# Altium integrated library Relay.IntLib: 11 symbols
Pins are listed as number, name and electrical type; pins without a type are passive.

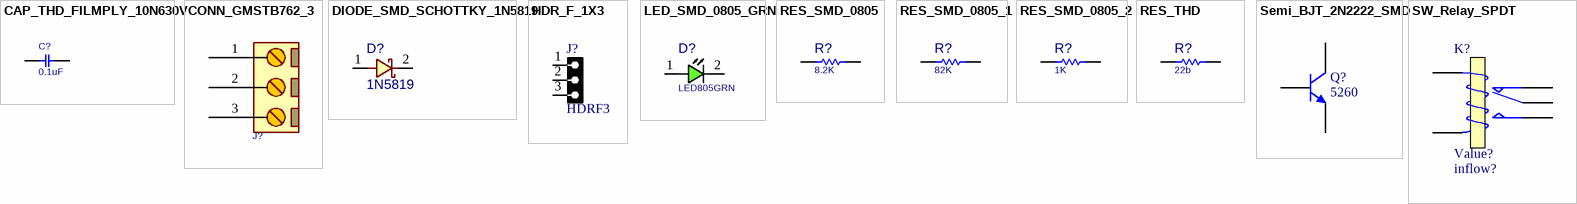
[diagram p0: symbols CAP_THD_FILMPLY_10N630V to SW_Relay_SPDT]

## CAP_THD_FILMPLY_10N630V
designator C?, comment 0.1uF
CAP, FILM, 10nF, 630V; MANF_P#: MANF_PART#; PARAM: 630V; PRICE: 100= 1$; DESC: CAP, FILM,; MANF: MANF; PARAM2: PARAM2; ASSEMBLY: ASSEMBLY; VALUE: 0.1uF
footprint C_PLY_13X5 (Footprint not found)
pins: 1, 2

## CONN_GMSTB762_3
designator J?, comment CONN_GMSTB3  (value not drawn)
CONN, PHOENIX MSTB, 5-G, 5.08mm pitch; MANF_P#: GMSTB 2,5/3-G-7,62; VALUE: CONN_GMSTB3
footprint GMSTB762_3 (PHOENIX, GMSTB 2,5/3-G-7,62, 7.62mm pitch, 3pin)
pins: 1, 2, 3

## DIODE_SMD_SCHOTTKY_1N5819
designator D?, comment 1N5819
DIODE, SCHOTTKY, 40V, 1A; MANF: DIODES; MANF_P#: 1N5819HW-7-F; DESC: DESCRIPTION; ASSEMBLY: ASSEMBLY; PRICE: PRICE; PARAM2: 1A; PARAM: 40V; VALUE: 1N5819
footprint D_SOD123W (1206D, SOD123, miniMELF, DO-213AA, MLL34, 320X160D)
pins: 1, 2

## HDR_F_1X3
designator J?, comment HDRF3
CONN, HEADER, Female, pitch: 2.54mm, 3POS; VALUE: HDRF3
footprint HDR_F_1X3 (HEADER FEMALE pitch: 2.54mm)
pins: 1, 2, 3

## LED_SMD_0805_GRN
designator D?, comment LED805GRN
LED, SMD, 0805, GREEN; PARAM: 20mA; DESC: DESCRIPTION; PARAM2: 2.2V; MANF: -; ASSEMBLY: ASSEMBLY; PRICE: 36t@Javan; MANF_P#: -; VALUE: LED805GRN
footprint LED0805GRN (LED SMD 0805, GREEN)
pins: 1 ANODE, 2 CATHODE

## RES_SMD_0805
designator R?, comment 8.2K
RESISTOR, SMD; PARAM: -W; DESC: DESCRIPTION; DIST#: MOUSER; PARAM2: 1%; MANF_P#: -; MANF: -; ASSEMBLY: ASSEMBLY; PRICE: 100= 0.5$; VALUE: 8.2K
footprint R0805 (CHIP RESISTOR 1/8 WATT ,2.0X1.3mm, 0805, 2012)
pins: 1, 2

## RES_SMD_0805_1
designator R?, comment 82K
RESISTOR, SMD; PARAM: -W; DESC: DESCRIPTION; DIST#: MOUSER; PARAM2: 1%; MANF_P#: -; MANF: -; ASSEMBLY: ASSEMBLY; PRICE: 100= 0.5$; VALUE: 82K
footprint R0805 (CHIP RESISTOR 1/8 WATT ,2.0X1.3mm, 0805, 2012)
pins: 1, 2

## RES_SMD_0805_2
designator R?, comment 1K
RESISTOR, SMD; PARAM: -W; DESC: DESCRIPTION; DIST#: MOUSER; PARAM2: 1%; MANF_P#: -; MANF: -; ASSEMBLY: ASSEMBLY; PRICE: 100= 0.5$; VALUE: 1K
footprint R0805 (CHIP RESISTOR 1/8 WATT ,2.0X1.3mm, 0805, 2012)
pins: 1, 2

## RES_THD
designator R?, comment 22b
RESISTOR, THD; MANF_P#: RK73H1ETTP4701F; MANF: KOA SPEER; PARAM: 0.063W; DESC: DESCRIPTION; DIST#: MOUSER; PARAM2: 1%; ASSEMBLY: ASSEMBLY; PRICE: 100= 0.5$; VALUE: 22b
footprint R0125W_AX025 (RESISTOR 1/8 WATT, AXIAL0.25)
footprint R1W_AX06 (RESISTOR 1 WATT, AXIAL0.6)
footprint R2W_AX08 (RESISTOR 2 WATT, AXIAL0.8)
footprint R2W_AX_VER (RESISTOR 2 WATT, AXIAL0.8)
footprint R3W_AX09 (RESISTOR 3 WATT, AXIAL0.9)
footprint R4W_AX10 (RESISTOR 4 WATT, AXIAL1.0)
footprint R05W_AX05 (RESISTOR 0.5 WATT, AXIAL0.5)
footprint R5W_AX11 (RESISTOR 5 WATT, AXIAL1.1)
footprint R5W_VER (RESISTOR 5 WATT, AXIAL1.1)
footprint R025W_AX04 (RESISTOR 1/4 WATT, AXIAL0.4)
footprint R025W_AX_VER (RESISTOR 1/4 WATT, AXIAL0.4)
footprint R0125W_AX03 (RESISTOR 1/8 WATT, AXIAL0.3 INCH SPACING)
footprint R0125W_AX_VER (RESISTOR 1/8 WATT, AXIAL0.25)
footprint RWW2W_VER (RESISTOR 2 WATT, Wirewound)
footprint RWW10W_VER (RESISTOR 10 WATT, Wirewound)
footprint R10W_AX11 (RESISTOR 10 WATT, AXIAL1.1)
footprint R10W_AX14 (RESISTOR 10 WATT, AXIAL1.4)
footprint R10W_AX20 (RESISTOR 10 WATT, AXIAL2.0)
footprint RWW5W (Footprint not found)
footprint RWW5W_VER (Footprint not found)
pins: 1, 2

## Semi_BJT_2N2222_SMD
designator Q?, comment Inflow: 5260  (hidden comment: NPN)
NPN Switching Transistors; Rating: Rating?; Type: Type?; Value: NPN; Package: Package?
footprint SOT23_N (SOT23, 3-Leads, Body 2.9x1.3mm, Pitch 0.95mm, Lead Span 2.3mm, IPC Medium Density)
footprint SOT23_L (SOT23, 3-Leads, Body 2.9x1.3mm, Pitch 0.95mm, Lead Span 2.3mm, IPC High Density)
footprint SOT23_M (SOT23, 3-Leads, Body 2.9x1.3mm, Pitch 0.95mm, Lead Span 2.3mm, IPC Low Density)
pins: 1 B, 2 E, 3 C

## SW_Relay_SPDT
designator K?, comment Inflow: inflow?  (hidden comment: Value?)
SPDT Relay; Rating: Rating?; Type: SPDT; Package: Dip; Value: Value?
footprint Relay 15.40x12.10x13.10
footprint Relay 18.85x15.35x15.70 (DESIGNER ABBAS BASEREH)
footprint Relay Needle 31.7x26.7x28 (DESIGNER ABBAS BASEREH)
footprint MODULE5B (DIP; 5 Round Pins; Row Space 15.24 mm; Pitch 2.54 mm)
pins: 1 COM, 2 NC, 3 NO, 4 T1, 5 T2